# EAGLE library part AS1310 (library my_components)
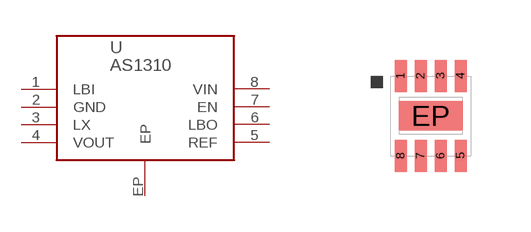
[diagram p5: symbol with the pads of AS1310; footprint AS1310]

Designator prefix -

## AS1310  [AS1310]
1  LBI  in
2  GND
3  LX
4  VOUT  out
5  REF
6  LBO  out
7  EN  in
8  VIN  in
EP  EP

## Footprint AS1310 (pad centres in mm)
smd 0.3 x 0.8: 1 -0.75,1; 2 -0.25,1; 3 0.25,1; 4 0.75,1; 5 0.75,-1; 6 0.25,-1; 7 -0.25,-1; 8 -0.75,-1
smd 1.6 x 0.737: EP 0,0